# Altium footprint library Panasonic_ERJ_0805.PcbLib: 1 footprints
Each footprint in its own frame and in the unit in brackets; x right, y up, seen from the top. Pads: shape width x height; smd on the part's side, far side on the other; paste and mask are expansions set on the pad; w line width, h text height; cw(c..) or ccw(c..) is an arc to the next point about the centre after c.
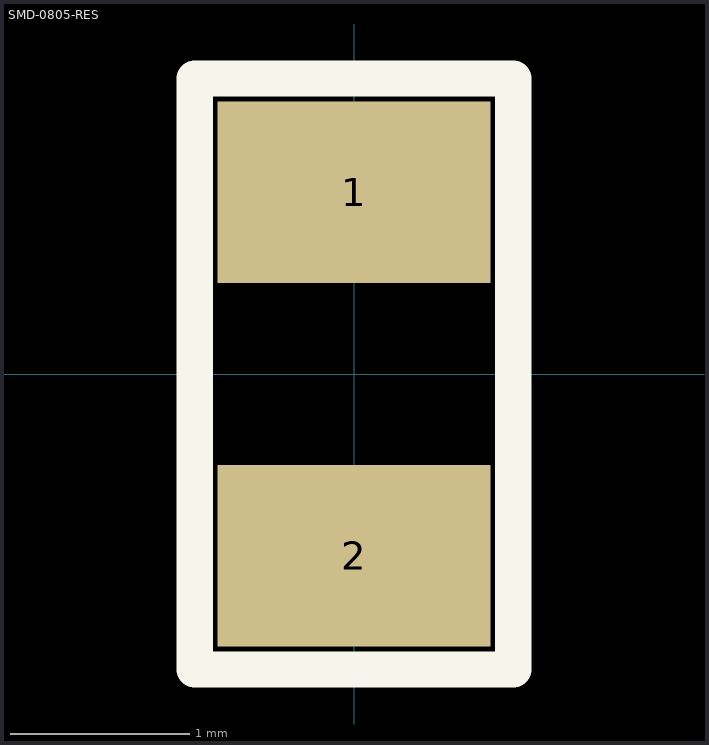
[diagram p0: the footprint, top view; thin cyan lines are the x and y axes]

## SMD-0805-RES [mil]
pads (2):
  rect 60x40 smd: 1(0,40) 2(0,-40)
Top Overlay:
  lines w8: -35,-65 35,-65 35,65 -35,65 -35,-65
3D body "SW3dPS-0805 SMD Resistor.STEP": height 30.79, standoff 0, extent -23.6,-39.36 25.6,39.38